# EAGLE library part 691322310010 (library Wuerth_Elektronik_eiCan_Terminal_Blocks_v2.0)
WR-TBL Serie 322 - 3.81mm Vertical PCB Header , 10 Pins
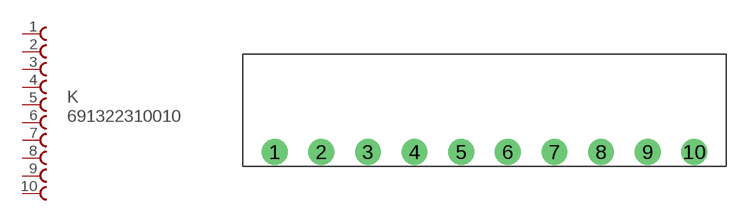
[diagram p42: symbol with the pads of 691322310010; footprint 691322310010]

Designator prefix K

## 691322310010  [691322310010]
1  1  pas
2  2  pas
3  3  pas
4  4  pas
5  5  pas
6  6  pas
7  7  pas
8  8  pas
9  9  pas
10  10  pas

## Footprint 691322310010 (pad centres in mm)
WR-TBL Serie 322 - 3.81mm Vertical PCB Header , 10 Pins
drill 1.4 round: 1 -19.05,0; 2 -15.24,0; 3 -11.43,0; 4 -7.62,0; 5 -3.81,0; 6 0,0; 7 3.81,0; 8 7.62,0; 9 11.43,0; 10 15.24,0